# EAGLE library part TE_2X16_HEADER (library TE_CONNECTOR)
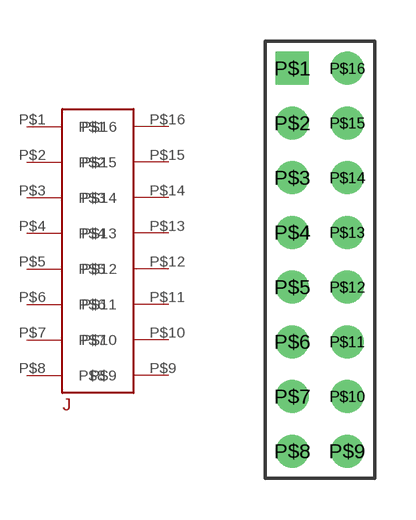
[diagram p0: symbol with the pads of TE_2X16_HEADER; footprint TE_2X16_HEADER]

Designator prefix J

## TE_2X16_HEADER  [TE_2X16_HEADER]
P$1  P$1
P$2  P$2
P$3  P$3
P$4  P$4
P$5  P$5
P$6  P$6
P$7  P$7
P$8  P$8
P$9  P$9
P$10  P$10
P$11  P$11
P$12  P$12
P$13  P$13
P$14  P$14
P$15  P$15
P$16  P$16

## Footprint TE_2X16_HEADER (pad centres in mm)
drill 0.7 square: P$1 -1,7
drill 0.7: P$2 -1,5; P$3 -1,3; P$4 -1,1; P$5 -1,-1; P$6 -1,-3; P$7 -1,-5; P$8 -1,-7; P$9 1,-7; P$10 1,-5; P$11 1,-3; P$12 1,-1; P$13 1,1; P$14 1,3; P$15 1,5; P$16 1,7